# Altium footprint library P6SMB12CAT3G.PCBLIB: 1 footprints
Each footprint in its own frame and in the unit in brackets; x right, y up, seen from the top. Pads: shape width x height; smd on the part's side, far side on the other; paste and mask are expansions set on the pad; w line width, h text height; cw(c..) or ccw(c..) is an arc to the next point about the centre after c.
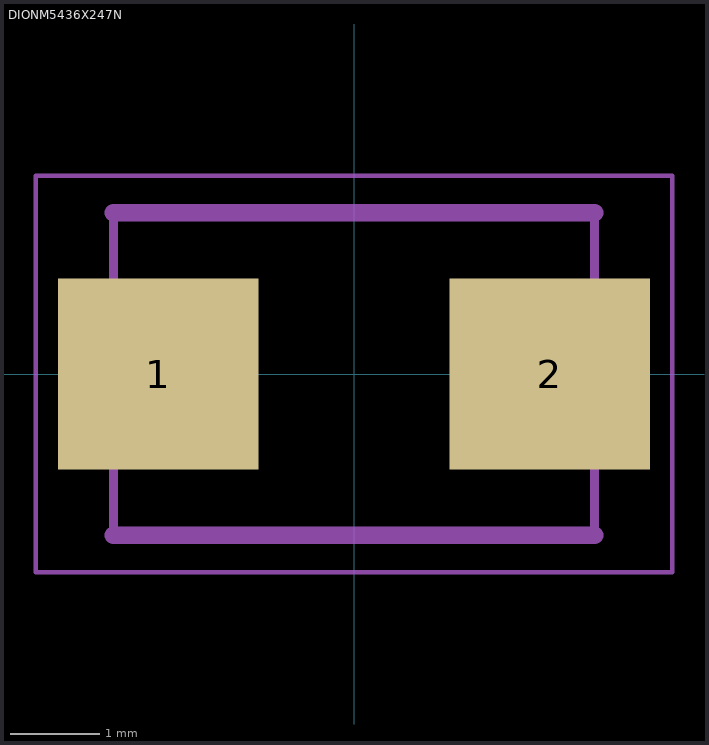
[diagram p0: the footprint, top view; thin cyan lines are the x and y axes]

## DIONM5436X247N [mm]
pads (2):
  rect 2.25x2.15 smd: 1(-2.2,0) 2(2.2,0)
Mechanical 8:
  lines w0.05: -3.575,-2.225 3.575,-2.225 3.575,2.225 -3.575,2.225 -3.575,-2.225
  lines w0.1: -2.702,-1.812 2.702,-1.812 2.702,1.812 -2.702,1.812 -2.702,-1.812
Mechanical 22:
  lines w0.2: -2.702,-1.812 2.702,-1.812 ; -2.702,1.812 2.702,1.812